# Altium schematic symbol library Solder_Bridge.SchLib: 2 symbols
Pins are listed as number, name and electrical type; pins without a type are passive.

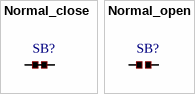
[diagram p0: symbols Normal_close to Normal_open]

## Normal_close
designator SB?, comment Solder bridge  (value not drawn)  (net tie, no BOM)
footprint Normal_close
pins: 1, 2

## Normal_open
designator SB?, comment Solder bridge  (value not drawn)  (no BOM)
footprint Normal_open
pins: 1, 2